# Altium integrated library TL3342F160QG.IntLib: 1 symbol
Pins are listed as number, name and electrical type; pins without a type are passive.

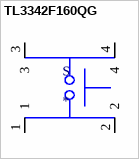
[diagram p0: symbol TL3342F160QG]

## TL3342F160QG
designator S
Tactile Switch SPST-NO Top Actuated Surface Mount; MF: E-Switch; MP: TL3342F160QG; Package: None; Availability: Unavailable; SnapEDA_Link: https://www.snapeda.com/parts/TL3342F160QG/E-Switch/view-part/1099729/?ref=snap; Value: *; Price: None
footprint SW_TL3342F160QG
pins: 1, 2, 3, 4